# EAGLE library part SNES (library snes_breakout)
SNES HEADER
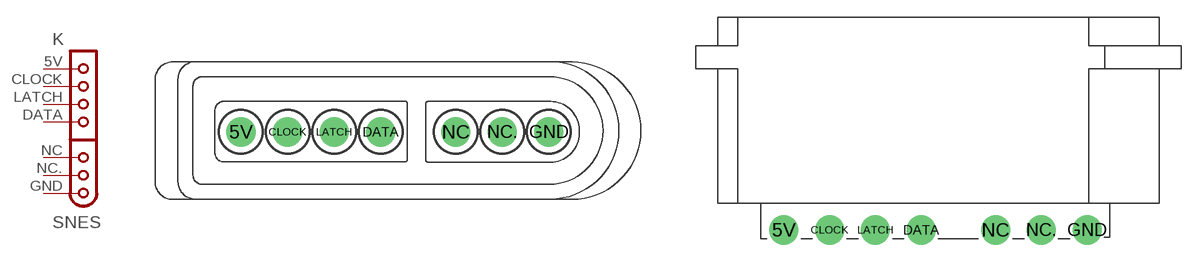
[diagram p0: symbol with the pads of SNESCONN; footprints SNESCONN, SNESCON-L]

Designator prefix K

## SNESG  [SNESCONN]
5V  1  pas
CLOCK  2  pas
DATA  4  pas
GND  7  pas
LATCH  3  pas
NC  5  pas
NC.  6  pas

## SNES-L  [SNESCON-L]
Pads as for SNESCONN

## SNES-R  [SNESCON-R]
Pads as for SNESCONN

## Footprint SNESCONN (pad centres in mm)
drill 1.448 pad 2.54: 5V -15.24,0.254; CLOCK -11.176,0.254; DATA -3.048,0.254; GND 11.644,0.254; LATCH -7.112,0.254; NC 3.516,0.254; NC. 7.58,0.254

## Footprint SNESCON-L (pad centres in mm)
drill 1.448 pad 2.54: 5V 0,0.254; CLOCK 4,0.254; DATA 12,0.254; GND 26.5,0.254; LATCH 8,0.254; NC 18.5,0.254; NC. 22.5,0.254

## Footprint SNESCON-R (pad centres in mm)
drill 1.448 pad 2.54: 5V 0,0.254; CLOCK -4,0.254; DATA -12,0.254; GND -26.5,0.254; LATCH -8,0.254; NC -18.5,0.254; NC. -22.5,0.254